# Altium footprint library Fet.PcbLib: 2 footprints
Each footprint in its own frame and in the unit in brackets; x right, y up, seen from the top. Pads: shape width x height; smd on the part's side, far side on the other; paste and mask are expansions set on the pad; w line width, h text height; cw(c..) or ccw(c..) is an arc to the next point about the centre after c.
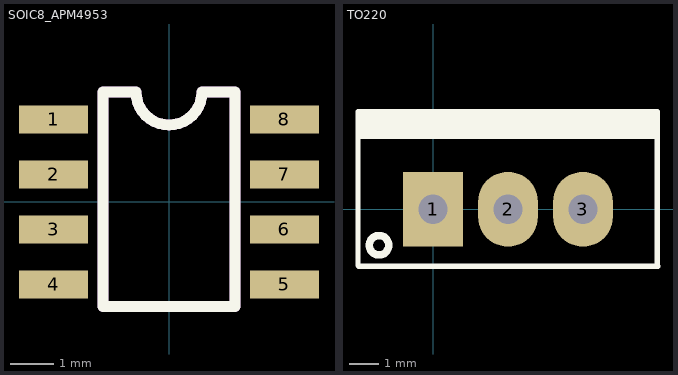
[diagram p0: the footprints below, top view; thin cyan lines are the x and y axes]

## SOIC8_APM4953 [mm] "SOIC"
height 1.75
pads (8):
  rect 1.6x0.65 smd mask+0.076: 1(-2.667,1.905) 2(-2.667,0.635) 3(-2.667,-0.635) 4(-2.667,-1.905) 5(2.667,-1.905) 6(2.667,-0.635) 7(2.667,0.635) 8(2.667,1.905)
Top Overlay:
  lines w0.254: -1.524,-2.413 -1.524,2.54 -0.762,2.54 ccw(c0,2.54) 0,1.778 ccw(c0,2.54) 0.762,2.54 1.524,2.54 1.524,-2.413 -1.524,-2.413
Mechanical 2:
  lines w0.254: -1.524,-2.413 -1.524,2.54 -0.762,2.54 ccw(c0,2.54) 0,1.778 ccw(c0,2.54) 0.762,2.54 1.524,2.54 1.524,-2.413 -1.524,-2.413
  text "'.Designator'" at -0.224,1.524 h1.02
3D body "User Library-SOIC-8.STEP": height 1.75, standoff 0, extent -3.006,-2.5 3.006,2.5

## TO220 [mil] "TO220"
height 200
pads (3):
  rect 80x100 hole 39: 1(0,0)
  oval 80x100 hole 39: 2(100,0) 3(200,0)
Top Overlay:
  circle w10: c-72.03,-48 r12.97
  rectangle: -99,94 300,130
  lines w7: 298,107 299,93 ; -100,-75 -99,-76 -76,-76 300,-76 299,-75 299,130 -100,130 -100,-75
3D body "User Library-TO-220-1.STEP": height 322.83, standoff -810.24, extent -94.88,-80 294.88,97.17